# Altium integrated library Actives_Transistors.IntLib: 13 symbols
Pins are listed as number, name and electrical type; pins without a type are passive.

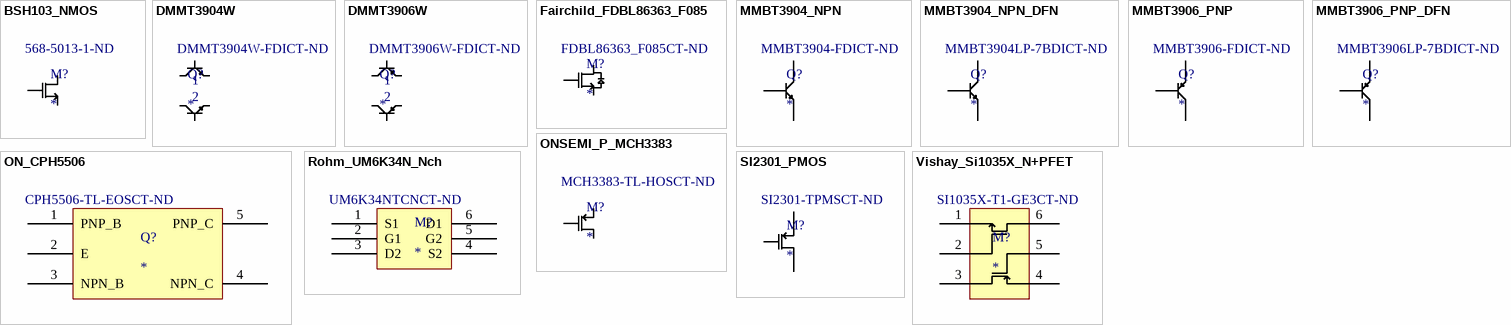
[diagram p0: symbols BSH103_NMOS to Vishay_Si1035X_N+PFET]

## BSH103_NMOS
designator M?  Supplier Part Number 1: 568-5013-1-ND
Supplier 1: Digi-Key
footprint SOT23-3 (SOT23, 3-Leads, Body 2.90x2.30mm, Pitch 0.95mm, IPC High Density)
pins: 1 G, 2 S, 3 D

## DMMT3904W
designator Q?  Supplier Part Number 1: DMMT3904W-FDICT-ND
Matched pair NPN; Supplier 1: Digi-Key
footprint DMMT390xW_SOT363-6 (SOT23, 6-Leads, Body 2.00x2.10mm, Pitch 0.65mm, IPC High Density)
pins: 1 B2, 2 B1, 3 C1, 4 E1, 5 E2, 6 C2

## DMMT3906W
designator Q?  Supplier Part Number 1: DMMT3906W-FDICT-ND
Matched pair PNP; Supplier 1: Digi-Key
footprint DMMT390xW_SOT363-6 (SOT23, 6-Leads, Body 2.00x2.10mm, Pitch 0.65mm, IPC High Density)
pins: 1 B2, 2 B1, 3 C1, 4 E1, 5 E2, 6 C2

## Fairchild_FDBL86363_F085
designator M?  Supplier Part Number 1: FDBL86363_F085CT-ND
80V 240A NMOS 2.0mR; Supplier 1: Digi-Key
footprint Fairchild_FDBL86363_F085 (TO_LL)
pins: 1 G, 2 S, 3 D

## MMBT3904_NPN
designator Q?  Supplier Part Number 1: MMBT3904-FDICT-ND
Supplier 1: Digi-Key
footprint SOT23-3 (SOT23, 3-Leads, Body 2.90x2.30mm, Pitch 0.95mm, IPC High Density)
footprint DFN3 (DFN, 3-Leads, Body 0.61x1.01mm, Pitch 0.65mm, IPC High Density)
pins: 1 B, 2 E, 3 C

## MMBT3904_NPN_DFN
designator Q?  Supplier Part Number 1: MMBT3904LP-7BDICT-ND
2N3904_DFN; Supplier 1: Digi-Key
footprint DFN3 (DFN, 3-Leads, Body 0.61x1.01mm, Pitch 0.65mm, IPC High Density)
pins: 1 B, 2 E, 3 C

## MMBT3906_PNP
designator Q?  Supplier Part Number 1: MMBT3906-FDICT-ND
Supplier 1: Digi-Key
footprint SOT23-3 (SOT23, 3-Leads, Body 2.90x2.30mm, Pitch 0.95mm, IPC High Density)
pins: 1 B, 2 E, 3 C

## MMBT3906_PNP_DFN
designator Q?  Supplier Part Number 1: MMBT3906LP-7BDICT-ND
2N3906_DFN; Supplier 1: Digi-Key
footprint DFN3 (DFN, 3-Leads, Body 0.61x1.01mm, Pitch 0.65mm, IPC High Density)
pins: 1 B, 2 E, 3 C

## ON_CPH5506
designator Q?  Supplier Part Number 1: CPH5506-TL-EOSCT-ND
Emmiter Coupled PNP NPN; Supplier 1: Digi-Key
footprint ON_CPH5506_SOT23-5 (SOT23, 5-Leads, Body 2.90x2.80mm, Pitch 0.95mm, IPC High Density)
pins: 1 PNP_B, 2 E, 3 NPN_B, 4 NPN_C, 5 PNP_C

## ONSEMI_P_MCH3383
designator M?  Supplier Part Number 1: MCH3383-TL-HOSCT-ND
MCH3383 PCH; Supplier 1: Digi-Key
footprint ONSEMI_SC70-3 (SOTFL, 3-Leads, Body 2.01x2.10mm, Pitch 0.65mm, IPC Medium Density)
pins: 1 G, 2 S, 3 D

## Rohm_UM6K34N_Nch
designator M?  Supplier Part Number 1: UM6K34NTCNCT-ND
Dual Nch Mosfet; Supplier 1: Digi-Key
footprint SOT-363 Generic (TSOP, 6-Leads, Body 2.00x1.25mm, Pitch 0.65mm, IPC High Density)
pins: 1 S1, 2 G1, 3 D2, 4 S2, 5 G2, 6 D1

## SI2301_PMOS
designator M?  Supplier Part Number 1: SI2301-TPMSCT-ND
Supplier 1: Digi-Key
footprint SOT23-3 (SOT23, 3-Leads, Body 2.90x2.30mm, Pitch 0.95mm, IPC High Density)
pins: 1 G, 2 S, 3 D

## Vishay_Si1035X_N+PFET
designator M?  Supplier Part Number 1: SI1035X-T1-GE3CT-ND
N/Pch Mosfet; Supplier 1: Digi-Key
footprint Vishay_N+PFET (SOT23, 6-Leads, Body 1.60x1.60mm, Pitch 0.50mm, IPC High Density)
pins: 1 Sn, 2 Gn, 3 Dp, 4 Sp, 5 Gp, 6 Dn